# Altium integrated library WE-ExB_rev16a.intlib: 5 symbols
Pins are listed as number, name and electrical type; pins without a type are passive.

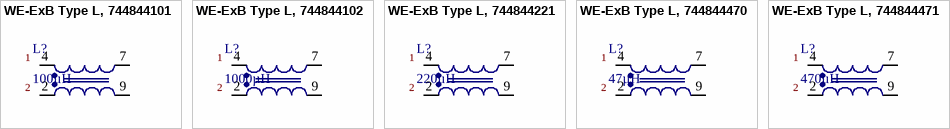
[diagram p0: symbols WE-ExB Type L, 744844101 to WE-ExB Type L, 744844471]

## WE-ExB Type L, 744844101
designator L?, comment 100µH
WE-ExB Common Mode Power Line Choke, L= 100µH; partNo: 744844101; Manufacturer: Wurth Elektronik; Inductance: 100µH; ComponentLink1Description: Manufacturer; ComponentLink1URL: http://www.we-online.de; Created by: Baojun Chen; Created Date: Jan.2016; ComponentLink2Description: Datasheet; ComponentLink2URL: http://katalog.we-online.de/pbs/datasheet/744844101.pdf
footprint WE-ExB_Type L
pins: 2, 4, 7, 9
text: 1

## WE-ExB Type L, 744844102
designator L?, comment 1000µH
WE-ExB Common Mode Power Line Choke, L= 1000µH; partNo: 744844102; Manufacturer: Wurth Elektronik; Inductance: 1000µH; ComponentLink1Description: Manufacturer; ComponentLink1URL: http://www.we-online.de; Created by: Baojun Chen; Created Date: Jan.2016; ComponentLink2Description: Datasheet; ComponentLink2URL: http://katalog.we-online.de/pbs/datasheet/744844102.pdf
footprint WE-ExB_Type L
pins: 2, 4, 7, 9
text: 1

## WE-ExB Type L, 744844221
designator L?, comment 220µH
WE-ExB Common Mode Power Line Choke, L= 220µH; partNo: 744844221; Manufacturer: Wurth Elektronik; Inductance: 220µH; ComponentLink1Description: Manufacturer; ComponentLink1URL: http://www.we-online.de; Created by: Baojun Chen; Created Date: Jan.2016; ComponentLink2Description: Datasheet; ComponentLink2URL: http://katalog.we-online.de/pbs/datasheet/744844221.pdf
footprint WE-ExB_Type L
pins: 2, 4, 7, 9
text: 1

## WE-ExB Type L, 744844470
designator L?, comment 47µH
WE-ExB Common Mode Power Line Choke, L= 47µH; partNo: 744844470; Manufacturer: Wurth Elektronik; Inductance: 47µH; ComponentLink1Description: Manufacturer; ComponentLink1URL: http://www.we-online.de; Created by: Baojun Chen; Created Date: Jan.2016; ComponentLink2Description: Datasheet; ComponentLink2URL: http://katalog.we-online.de/pbs/datasheet/744844470.pdf
footprint WE-ExB_Type L
pins: 2, 4, 7, 9
text: 1

## WE-ExB Type L, 744844471
designator L?, comment 470µH
WE-ExB Common Mode Power Line Choke, L= 470µH; partNo: 744844471; Manufacturer: Wurth Elektronik; Inductance: 470µH; ComponentLink1Description: Manufacturer; ComponentLink1URL: http://www.we-online.de; Created by: Baojun Chen; Created Date: Jan.2016; ComponentLink2Description: Datasheet; ComponentLink2URL: http://katalog.we-online.de/pbs/datasheet/744844471.pdf
footprint WE-ExB_Type L
pins: 2, 4, 7, 9
text: 1